# Altium footprint library AmbiqPhoenix.PcbLib: 27 footprints (part 2 of 2)
Each footprint in its own frame and in the unit in brackets; x right, y up, seen from the top. Pads: shape width x height; smd on the part's side, far side on the other; paste and mask are expansions set on the pad; w line width, h text height; cw(c..) or ccw(c..) is an arc to the next point about the centre after c.
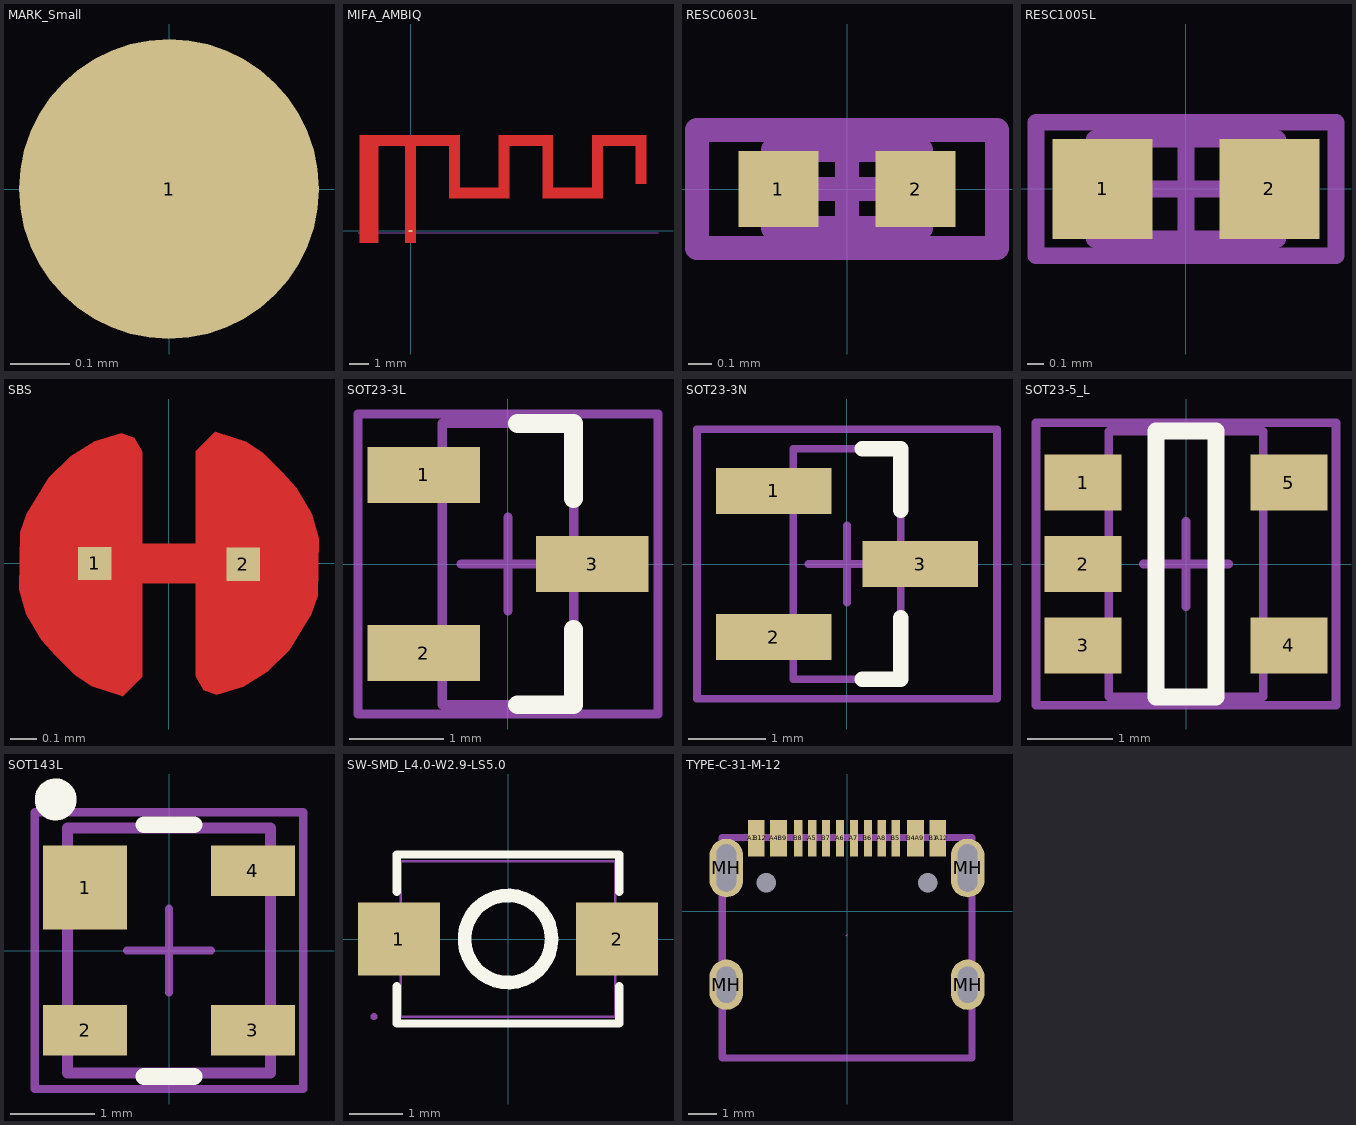
[diagram p1: the footprints below, top view; thin cyan lines are the x and y axes]

## MARK_Small [mil] "MARK"
pads (1):
  round 20 smd: 1(0,0)

## MIFA_AMBIQ [mm]
pads (1):
  rect 0.2x0.1 smd mask+0.102: 1(0,0)
Top Layer:
  region: -2.548,-0.608 -2.551,-0.608 -2.555,-0.606 -2.559,-0.602 -2.561,-0.597 -2.561,-0.595 -2.561,4.795 -2.561,4.798 -2.559,4.803 -2.555,4.806 -2.551,4.808 -2.548,4.808 2.452,4.808 2.455,4.808 2.459,4.806 2.463,4.803 2.465,4.798 2.465,4.795 2.465,2.168 4.439,2.168 4.439,4.795 4.439,4.798 4.441,4.803 4.445,4.806 4.449,4.808 4.452,4.808 7.152,4.808 7.155,4.808 7.159,4.806 7.163,4.803 7.165,4.798 7.165,4.795 7.165,2.168 9.139,2.168 9.139,4.795 9.139,4.798 9.141,4.803 9.145,4.806 9.149,4.808 9.152,4.808 11.852,4.808 11.855,4.808 11.859,4.806 11.863,4.803 11.865,4.798 11.865,4.795 11.865,2.362 11.339,2.362 11.339,4.282 9.665,4.282 9.665,1.655 9.665,1.653 9.663,1.648 9.659,1.644 9.655,1.642 9.652,1.642 6.652,1.642 6.649,1.642 6.645,1.644 6.641,1.648 6.639,1.653 6.639,1.655 6.639,4.282 4.965,4.282 4.965,1.655 4.965,1.653 4.963,1.648 4.959,1.644 4.955,1.642 4.952,1.642 1.952,1.642 1.949,1.642 1.945,1.644 1.941,1.648 1.939,1.653 1.939,1.655 1.939,4.282 0.265,4.282 0.265,-0.595 0.265,-0.597 0.263,-0.602 0.259,-0.606 0.255,-0.608 0.252,-0.608 -0.248,-0.608 -0.251,-0.608 -0.255,-0.606 -0.259,-0.602 -0.261,-0.597 -0.261,-0.595 -0.261,4.282 -1.635,4.282 -1.635,-0.595 -1.635,-0.597 -1.637,-0.602 -1.641,-0.606 -1.645,-0.608 -1.648,-0.608
Mechanical 13:
  lines w0.025: -2.642,-0.102 12.446,-0.102

## RESC0603L [mm] "Chip Resistor, Body 0.6x0.3mm, IPC High Density"
height 0.3
pads (2):
  rect 0.34x0.32 smd: 1(-0.29,0) 2(0.29,0)
Mechanical 13:
  lines w0.1: -0.315,-0.165 0.315,-0.165 0.315,0.165 -0.315,0.165 -0.315,-0.165
Mechanical 15:
  lines w0.1: -0.165,0 0.165,0 ; 0,-0.165 0,0.165 ; -0.635,-0.25 0.635,-0.25 0.635,0.25 -0.635,0.25 -0.635,-0.25
3D body "R 0201.STEP": height 0.23, standoff 0, extent -0.3,-0.15 0.3,0.15

## RESC1005L [mm] "Chip Resistor, Body 1.1x0.5mm, IPC High Density"
height 0.4
pads (2):
  rect 0.6x0.6 smd: 1(-0.5,0) 2(0.5,0)
Mechanical 13:
  lines w0.1: -0.55,-0.3 0.55,-0.3 0.55,0.3 -0.55,0.3 -0.55,-0.3
Mechanical 15:
  lines w0.1: -0.3,0 0.3,0 ; 0,-0.3 0,0.3 ; -0.9,-0.4 0.9,-0.4 0.9,0.4 -0.9,0.4 -0.9,-0.4
3D body "R 0402.STEP": height 0.3, standoff 0, extent -0.5,-0.25 0.5,0.25

## SBS [mil]
pads (2):
  rect 5x5 smd: 1(-11.19,0) 2(11.19,-0.12)
Top Layer:
  region: 4.02,16.93 7,19.82 11.66,18.31 14.2,16.62 17.1,13.72 19.2,11.42 21.5,7.52 22.6,3.82 22.4,-4.88 21.4,-7.68 18.1,-13.08 14.8,-16.28 11.19,-18.54 7.2,-19.78 5.2,-19.08 4.02,-17.01
  region: -4.02,-17.09 -7,-19.98 -11.66,-18.46 -14.2,-16.78 -17.1,-13.88 -19.2,-11.58 -21.5,-7.68 -22.6,-3.98 -22.4,4.72 -21.4,7.52 -18.1,12.92 -14.8,16.12 -11.19,18.39 -7.2,19.62 -5.2,18.92 -4.02,16.85
  lines w6: -13.3,0 13.3,0
Top Solder:
  circle w24: c-1.1,0 r11
  circle w24: c1.1,0 r11

## SOT23-3L [mm] "SOT23, 3-Leads, Body 2.9x1.3mm, Pitch 0.95mm, Lead Span 2.5mm, IPC High Density"
height 1.1
pads (3):
  rect 1.2x0.6 smd: 1(-0.9,0.95) 2(-0.9,-0.95) 3(0.9,0)
Top Overlay:
  lines w0.2: 0.1,-1.5 0.7,-1.5 0.7,-0.7 ; 0.1,1.5 0.7,1.5 0.7,0.7
Mechanical 13:
  lines w0.1: -0.7,-1.5 -0.7,1.5 0.7,1.5 0.7,-1.5 -0.7,-1.5
Mechanical 15:
  lines w0.1: -0.5,0 0.5,0 ; 0,-0.5 0,0.5 ; -1.6,-1.6 -1.6,1.6 1.6,1.6 1.6,-1.6 -1.6,-1.6
3D body "SOT23.STEP": height 1.08, standoff 0, extent -1.295,-1.5 1.345,1.5

## SOT23-3N [mm] "SOT23, 3-Leads, Body 2.9x1.3mm, Pitch 0.95mm, Lead Span 2.5mm, IPC Medium Density"
height 1.1
pads (3):
  rect 1.5x0.6 smd: 1(-0.95,0.95) 2(-0.95,-0.95) 3(0.95,0)
Top Overlay:
  lines w0.2: 0.2,-1.5 0.7,-1.5 0.7,-0.7 ; 0.2,1.5 0.7,1.5 0.7,0.7
Mechanical 13:
  lines w0.1: -0.7,-1.5 -0.7,1.5 0.7,1.5 0.7,-1.5 -0.7,-1.5
Mechanical 15:
  lines w0.1: -0.5,0 0.5,0 ; 0,-0.5 0,0.5 ; -1.95,-1.75 -1.95,1.75 1.95,1.75 1.95,-1.75 -1.95,-1.75
3D body "SOT23.STEP": height 1.08, standoff 0, extent -1.345,-1.5 1.295,1.5

## SOT23-5_L [mm] "SOT23, 5-Leads, Body 2.9x1.6mm, Pitch 0.95mm, Lead Span 2.8mm, IPC High Density"
height 1.45
pads (5):
  rect 0.9x0.65 smd: 1(-1.2,0.95) 2(-1.2,0) 3(-1.2,-0.95) 4(1.2,-0.95) 5(1.2,0.95)
Top Overlay:
  lines w0.2: -0.35,-1.55 0.35,-1.55 0.35,1.55 -0.35,1.55 -0.35,-1.55
Mechanical 13:
  lines w0.1: -0.9,-1.55 -0.9,1.55 0.9,1.55 0.9,-1.55 -0.9,-1.55
Mechanical 15:
  lines w0.1: -0.5,0 0.5,0 ; 0,-0.5 0,0.5 ; -1.75,-1.65 -1.75,1.65 1.75,1.65 1.75,-1.65 -1.75,-1.65
3D body "User Library-SOT23-5.STEP": height 1.09, standoff -0.01, extent -1.451,-1.473 1.349,1.426

## SOT143L [mm] "SOT143, 4-Leads, Body 2.9x1.3mm, Pitch 1.9mm, Lead Span 2.5mm, IPC High Density"
height 1.1
pads (4):
  rect 1x1 smd: 1(-1,0.75)
  rect 1x0.6 smd: 2(-1,-0.95) 3(1,-0.95) 4(1,0.95)
Top Overlay:
  circle w0.25: c-1.35,1.8 r0.125
  lines w0.2: -0.3,-1.5 0.3,-1.5 ; -0.3,1.5 0.3,1.5
Mechanical 13:
  lines w0.127: -1.21,-1.46 1.21,-1.46 1.21,1.46 -1.21,1.46 -1.21,-1.46
Mechanical 15:
  lines w0.1: -0.5,0 0.5,0 ; 0,-0.5 0,0.5 ; -1.6,-1.65 1.6,-1.65 1.6,1.65 -1.6,1.65 -1.6,-1.65
3D body "User Library-sot143.STEP": height 1, standoff 0, extent -1.21,-1.46 1.21,1.46

## SW-SMD_L4.0-W2.9-LS5.0 [mm]
pads (2):
  rect 1.53x1.36 smd mask+0.051: 1(-2.035,0) 2(2.035,0)
Top Overlay:
  circle w0.254: c0,0 r0.813
  lines w0.152: -2.076,-0.883 -2.076,-1.576 2.076,-1.576 2.076,-0.883 ; -2.076,0.883 -2.076,1.576 2.076,1.576 2.076,0.883
Mechanical 15:
  region: -2.44,-1.45 -2.44,-1.425 -2.475,-1.39 -2.525,-1.39 -2.56,-1.425 -2.56,-1.45 -2.56,-1.475 -2.525,-1.51 -2.475,-1.51 -2.44,-1.475 -2.44,-1.45
  region: 2.5,0.65 2.5,-0.65 1.3,-0.65 1.3,0.65
  region: -2.5,0.65 -2.5,-0.65 -1.3,-0.65 -1.3,0.65
  lines w0.051: -2,-1.45 2,-1.45 2,1.45 -2,1.45 -2,-1.45

## TYPE-C-31-M-12 [mm]
pads (22):
  rect 0.3x1.3 smd: A1(-3.4,2.623) A4(-2.6,2.623) A5(-1.25,2.623) A6(-0.25,2.623) A7(0.25,2.623) A8(1.25,2.624) A9(2.6,2.623) A12(3.4,2.623) B1(3.1,2.623) B4(2.3,2.623) B5(1.75,2.623) B6(0.75,2.623) B7(-0.75,2.623) B8(-1.75,2.624) B9(-2.3,2.623) B12(-3.1,2.623)
  oval 1.2x1.8 hole 0.7 slot 1.3 at 90 deg: MH(-4.32,-2.624) MH(4.32,-2.624)
  oval 1.2x2.1 hole 0.7 slot 1.7 at 90 deg: MH(-4.32,1.556) MH(4.32,1.556)
  round 0.1 hole 0.7 unplated: MH1(-2.89,1.026) MH2(2.89,1.026)
Mechanical 13:
  lines w0.254: -4.465,-5.25 4.475,-5.25 4.475,2.65 -4.465,2.65 -4.465,-5.25
Mechanical 15:
  lines w0.003: -0.025,-0.869 0.025,-0.818
3D body "HRO  TYPE-C-31-M-12.step": height 3.21, standoff -1, extent -4.465,-5.25 4.475,2.65